# EAGLE library part MOLEX_SL_24 (library molex-sl-connectors_jw)
Molex SL-Series PCB Header, 24-Pos, 0.1" (2.54mm) Centers
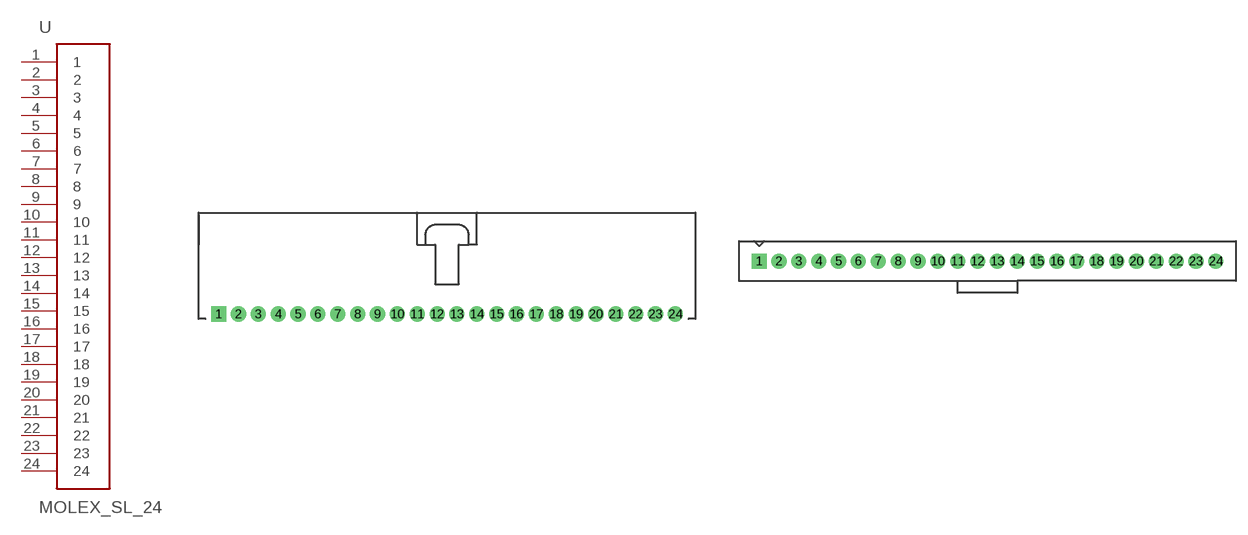
[diagram p18: symbol with the pads of SL_70553_24; footprints SL_70553_24, SL_70543_24]

Designator prefix -

## MOLEX_SL_24-70553  [SL_70553_24]
1  1
2  2
3  3
4  4
5  5
6  6
7  7
8  8
9  9
10  10
11  11
12  12
13  13
14  14
15  15
16  16
17  17
18  18
19  19
20  20
21  21
22  22
23  23
24  24

## MOLEX_SL_24-70543-74095  [SL_70543_24]
Pads as for SL_70553_24

## MOLEX_SL_24-70541-70545  [SL_70541_24]
Pads as for SL_70553_24

## MOLEX_SL_24-70551  [SL_70551_24]
Pads as for SL_70553_24

## MOLEX_SL_24-70555  [SL_70555_24]
Pads as for SL_70553_24

## MOLEX_SL_24-70634  [SL_70634_24]
Pads as for SL_70553_24

## MOLEX_SL_24-87898  [SL_87898_24]
Pads as for SL_70553_24

## Footprint SL_70553_24 (pad centres in mm)
Right-Angle Header w/ Latch (no pegs) 70553-0023 70553-0058 70553-0128 70553-0163
drill 1.1 pad 1.93 square: 1 -29.21,-5.08
drill 1.1 pad 1.93: 2 -26.67,-5.08; 3 -24.13,-5.08; 4 -21.59,-5.08; 5 -19.05,-5.08; 6 -16.51,-5.08; 7 -13.97,-5.08; 8 -11.43,-5.08; 9 -8.89,-5.08; 10 -6.35,-5.08; 11 -3.81,-5.08; 12 -1.27,-5.08; 13 1.27,-5.08; 14 3.81,-5.08; 15 6.35,-5.08; 16 8.89,-5.08; 17 11.43,-5.08; 18 13.97,-5.08; 19 16.51,-5.08; 20 19.05,-5.08; 21 21.59,-5.08; 22 24.13,-5.08; 23 26.67,-5.08; 24 29.21,-5.08

## Footprint SL_70543_24 (pad centres in mm)
Vertical Header w/ Latch & Optional Compliant Pins (no pegs) Normal Pins: 70543-0023 70543-0058 70543-0093 70543-0128 70543-0163 70543-0187 70543-0222 70543-0270 70543-0294 70543-0318 Compliant Pins 74095-0024 74095-0054 74095-0084 74095-1054 74095-1084
drill 1.1 pad 1.93 square: 1 -29.21,1.27
drill 1.1 pad 1.93: 2 -26.67,1.27; 3 -24.13,1.27; 4 -21.59,1.27; 5 -19.05,1.27; 6 -16.51,1.27; 7 -13.97,1.27; 8 -11.43,1.27; 9 -8.89,1.27; 10 -6.35,1.27; 11 -3.81,1.27; 12 -1.27,1.27; 13 1.27,1.27; 14 3.81,1.27; 15 6.35,1.27; 16 8.89,1.27; 17 11.43,1.27; 18 13.97,1.27; 19 16.51,1.27; 20 19.05,1.27; 21 21.59,1.27; 22 24.13,1.27; 23 26.67,1.27; 24 29.21,1.27

## Footprint SL_70541_24 (pad centres in mm)
Vertical Header w/ Latch & Pegs With Split Pegs: 70541-0023 70541-0058 70541-0093 With Tri-Pegs: 70545-0023 70545-0058 70545-0093 70545-3023 70545-3073 70545-3123
drill 1.1 pad 1.93 square: 1 -29.21,1.27
drill 1.1 pad 1.93: 2 -26.67,1.27; 3 -24.13,1.27; 4 -21.59,1.27; 5 -19.05,1.27; 6 -16.51,1.27; 7 -13.97,1.27; 8 -11.43,1.27; 9 -8.89,1.27; 10 -6.35,1.27; 11 -3.81,1.27; 12 -1.27,1.27; 13 1.27,1.27; 14 3.81,1.27; 15 6.35,1.27; 16 8.89,1.27; 17 11.43,1.27; 18 13.97,1.27; 19 16.51,1.27; 20 19.05,1.27; 21 21.59,1.27; 22 24.13,1.27; 23 26.67,1.27; 24 29.21,1.27
hole 3.404 at -33.274,0.508
hole 3.404 at 33.274,0.508

## Footprint SL_70551_24 (pad centres in mm)
Right-Angle Header w/ Latch & Split Pegs 70551-0023 70551-0058 70551-0093
drill 1.1 pad 1.93 square: 1 -29.21,-5.08
drill 1.1 pad 1.93: 2 -26.67,-5.08; 3 -24.13,-5.08; 4 -21.59,-5.08; 5 -19.05,-5.08; 6 -16.51,-5.08; 7 -13.97,-5.08; 8 -11.43,-5.08; 9 -8.89,-5.08; 10 -6.35,-5.08; 11 -3.81,-5.08; 12 -1.27,-5.08; 13 1.27,-5.08; 14 3.81,-5.08; 15 6.35,-5.08; 16 8.89,-5.08; 17 11.43,-5.08; 18 13.97,-5.08; 19 16.51,-5.08; 20 19.05,-5.08; 21 21.59,-5.08; 22 24.13,-5.08; 23 26.67,-5.08; 24 29.21,-5.08
hole 3.404 at -30.48,3.556
hole 3.404 at 30.48,3.556

## Footprint SL_70555_24 (pad centres in mm)
Right-Angle Header w/ Latch & Tri-Pegs 70555-0023 70555-0058 70555-0093 70555-5023
drill 1.1 pad 1.93 square: 1 -29.21,-5.08
drill 1.1 pad 1.93: 2 -26.67,-5.08; 3 -24.13,-5.08; 4 -21.59,-5.08; 5 -19.05,-5.08; 6 -16.51,-5.08; 7 -13.97,-5.08; 8 -11.43,-5.08; 9 -8.89,-5.08; 10 -6.35,-5.08; 11 -3.81,-5.08; 12 -1.27,-5.08; 13 1.27,-5.08; 14 3.81,-5.08; 15 6.35,-5.08; 16 8.89,-5.08; 17 11.43,-5.08; 18 13.97,-5.08; 19 16.51,-5.08; 20 19.05,-5.08; 21 21.59,-5.08; 22 24.13,-5.08; 23 26.67,-5.08; 24 29.21,-5.08
hole 3.404 at -30.607,3.556
hole 3.404 at 30.607,3.556

## Footprint SL_70634_24 (pad centres in mm)
SMD Right-Angle Header w/ Latch & PCB Pegs 70634-0023 70634-0058 70634-0093 70634-0128 70634-0163 70634-0198 70634-0224
smd 1.651 x 5.334: 1 -29.21,-7.62; 2 -26.67,-7.62; 3 -24.13,-7.62; 4 -21.59,-7.62; 5 -19.05,-7.62; 6 -16.51,-7.62; 7 -13.97,-7.62; 8 -11.43,-7.62; 9 -8.89,-7.62; 10 -6.35,-7.62; 11 -3.81,-7.62; 12 -1.27,-7.62; 13 1.27,-7.62; 14 3.81,-7.62; 15 6.35,-7.62; 16 8.89,-7.62; 17 11.43,-7.62; 18 13.97,-7.62; 19 16.51,-7.62; 20 19.05,-7.62; 21 21.59,-7.62; 22 24.13,-7.62; 23 26.67,-7.62; 24 29.21,-7.62
hole 3.404 at -30.632,3.048
hole 3.404 at 30.607,3.099

## Footprint SL_87898_24 (pad centres in mm)
SMD Vertical Header (no latch or pegs) Package also includes Pick-N-Place Cap Tube packaging w/o Pick-N-Place Cap: 87898-2421 87898-2422 87898-2424 87898-2425 87898-2426 Tube packaging w/ Pick-N-Place Cap: 87898-2431 87898-2432 87898-2434 87898-2435 87898-2436
smd 1.27 x 2.946: 1 -29.21,1.803; 2 -26.67,-1.803; 3 -24.13,1.803; 4 -21.59,-1.803; 5 -19.05,1.803; 6 -16.51,-1.803; 7 -13.97,1.803; 8 -11.43,-1.803; 9 -8.89,1.803; 10 -6.35,-1.803; 11 -3.81,1.803; 12 -1.27,-1.803; 13 1.27,1.803; 14 3.81,-1.803; 15 6.35,1.803; 16 8.89,-1.803; 17 11.43,1.803; 18 13.97,-1.803; 19 16.51,1.803; 20 19.05,-1.803; 21 21.59,1.803; 22 24.13,-1.803; 23 26.67,1.803; 24 29.21,-1.803